# EAGLE library part STF202-22T1G (library other_ic)
USB Filter with ESD Protection Source: Datasheet <http://www.onsemi.com/pub/Collateral/STF202-22T1-D.PDF>
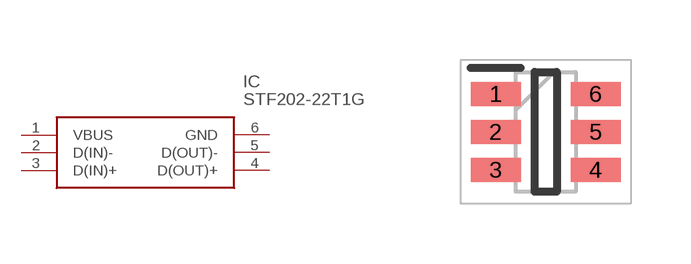
[diagram p1: symbol with the pads of SOT95P275X110-6N; footprint SOT95P275X110-6N]

Designator prefix IC

## STF202-22T1G (ALLIED_NUMBER: 70341539; ALLIED_PRICE-STOCK: http://www.alliedelec.com/on-semiconductor-stf202-22t1g/70341539/; DESCRIPTION: USB Filter with ESD Protection; HEIGHT: 1.1mm; MANUFACTURER_NAME: ON Semiconductor; MANUFACTURER_PART_NUMBER: STF202-22T1G; MOUSER_PART_NUMBER: 863-STF202-22T1G; MOUSER_PRICE-STOCK: https://www.mouser.com/Search/Refine.aspx?Keyword=863-STF202-22T1G; RS_PART_NUMBER: 1869924; RS_PRICE-STOCK: http://uk.rs-online.com/web/p/products/1869924)  [SOT95P275X110-6N]
1  VBUS
2  D(IN)-  in
3  D(IN)+  in
4  D(OUT)+  out
5  D(OUT)-  out
6  GND  pwr

## Footprint SOT95P275X110-6N (pad centres in mm)
TSOP-6 CASE318G-02
smd 1.25 x 0.6: 1 -1.25,0.95; 2 -1.25,0; 3 -1.25,-0.95; 4 1.25,-0.95; 5 1.25,0; 6 1.25,0.95